# EAGLE library part USB3.0B (library alexwhittemore-eagle)
USB3.0B Amphenol USB 3.0 B connector
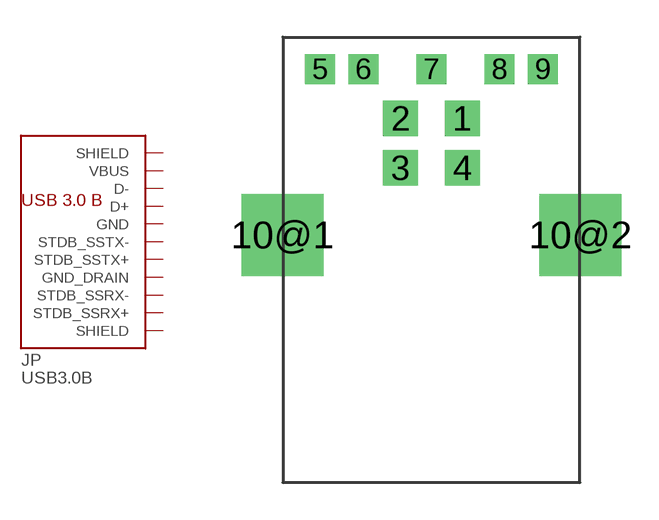
[diagram p4: symbol with the pads of AMPHENOLUSB3.0B; footprint AMPHENOLUSB3.0B]

Designator prefix JP

## USB3.0B  [AMPHENOLUSB3.0B]
1  VBUS
2  D-
3  D+
4  GND
5  STDB_SSTX-
6  STDB_SSTX+
7  GND_DRAIN
8  STDB_SSRX-
9  STDB_SSRX+
10@1  SHIELD
10@2  SHIELD

## Footprint AMPHENOLUSB3.0B (pad centres in mm)
USB 3.0 B Amphenol USB 3.0 B connector
drill 0.92 square: 1 1.25,4.71; 2 -1.25,4.71; 3 -1.25,2.71; 4 1.25,2.71
drill 0.7 square: 5 -4.5,6.71; 6 -2.75,6.71; 7 0,6.71; 8 2.75,6.71; 9 4.5,6.71
drill 2.3 square: 10@1 -6.02,0; 10@2 6.02,0